# Altium footprint library samtec-ehf.PcbLib: 1 footprints
Each footprint in its own frame and in the unit in brackets; x right, y up, seen from the top. Pads: shape width x height; smd on the part's side, far side on the other; paste and mask are expansions set on the pad; w line width, h text height; cw(c..) or ccw(c..) is an arc to the next point about the centre after c.
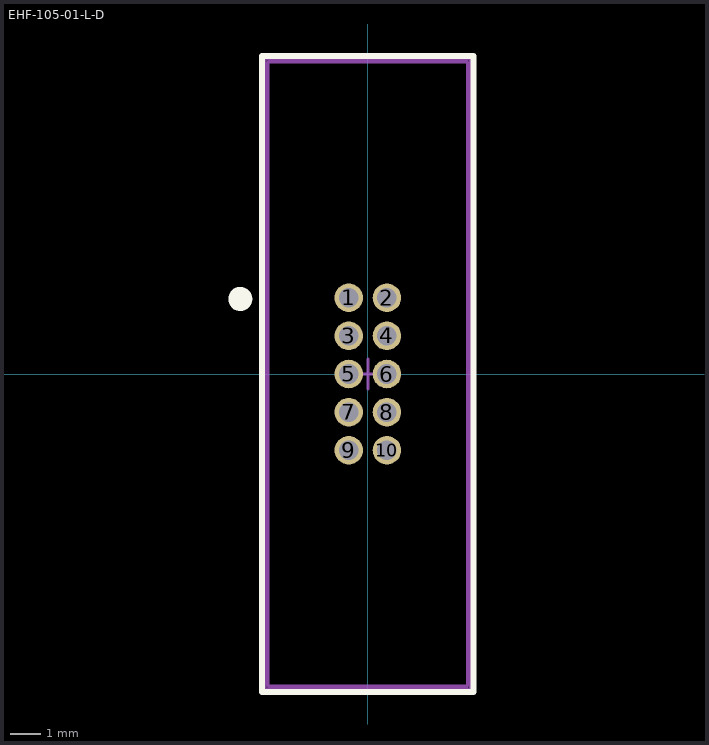
[diagram p0: the footprint, top view; thin cyan lines are the x and y axes]

## EHF-105-01-L-D [mm] "HEADER T/H 1.27mm 2x5"
height 4.32
pads (10):
  round 0.95 hole 0.65: 1(-0.635,2.54) 2(0.635,2.54) 3(-0.635,1.27) 4(0.635,1.27) 5(-0.635,0) 6(0.635,0) 7(-0.635,-1.27) 8(0.635,-1.27) 9(-0.635,-2.54) 10(0.635,-2.54)
Top Overlay:
  circle w0.4: c-4.25,2.5 r0.2
  lines w0.2: -3.525,-10.6 -3.525,10.6 3.525,10.6 3.525,-10.6 -3.525,-10.6
Mechanical 13:
  lines w0.1: -0.5,0 0.5,0 ; 0,-0.5 0,0.5 ; -3.325,-10.4 -3.325,10.4 3.325,10.4 3.325,-10.4 -3.325,-10.4
Mechanical 15:
  lines w0.1: -3.425,-10.5 -3.425,10.5 3.425,10.5 3.425,-10.5 -3.425,-10.5
  text ".Designator" at 0.225,-2.55 h0.5
3D body: height 11.33, standoff -2.7, extent -3.334,-10.414 3.334,10.414